# EAGLE library part TPIC6595 (library SW_Logic)
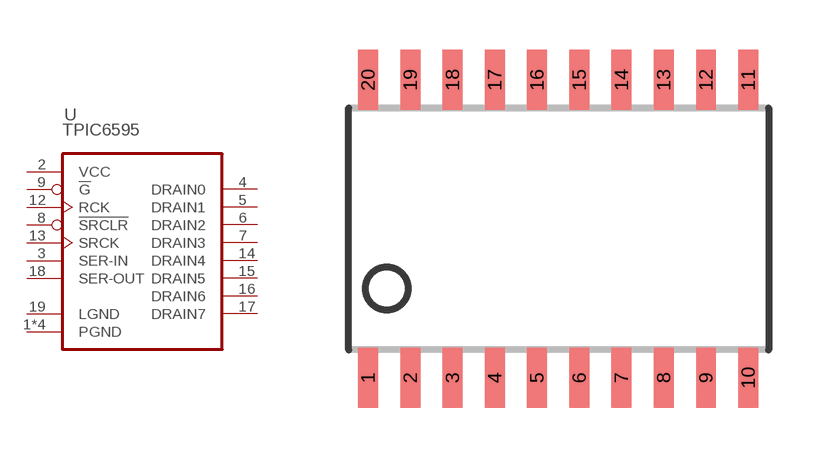
[diagram p2: symbol with the pads of SOIC20L; footprint SOIC20L]

Designator prefix U

## TPIC6595 (CATEGORY: Logic IC; MFGS: Texas Instruments; MPNS: TPIC6595DW; PACKAGE: 20-SOIC)  [SOIC20L]
1  PGND  pwr
2  VCC  pwr
3  SER-IN  in
4  DRAIN0  out
5  DRAIN1  out
6  DRAIN2  out
7  DRAIN3  out
8  !SRCLR  in
9  !G  in
10  PGND  pwr
11  PGND  pwr
12  RCK  in
13  SRCK  in
14  DRAIN4  out
15  DRAIN5  out
16  DRAIN6  out
17  DRAIN7  out
18  SER-OUT  out
19  LGND  pwr
20  PGND  pwr

## Footprint SOIC20L (pad centres in mm)
SMALL OUTLINE PACKAGE 12.8 x 10.3 Source: http://www.lsicsi.com/pdfs/Drawings/SOIC%20Outline%20Dwgs.pdf
smd 0.6 x 1.8: 1 -5.715,-4.475; 2 -4.445,-4.475; 3 -3.175,-4.475; 4 -1.905,-4.475; 5 -0.635,-4.475; 6 0.635,-4.475; 7 1.905,-4.475; 8 3.175,-4.475; 9 4.445,-4.475; 10 5.715,-4.475; 11 5.715,4.475; 12 4.445,4.475; 13 3.175,4.475; 14 1.905,4.475; 15 0.635,4.475; 16 -0.635,4.475; 17 -1.905,4.475; 18 -3.175,4.475; 19 -4.445,4.475; 20 -5.715,4.475